# Altium schematic symbol library war2415zp3wr.SchLib: 1 symbol
Pins are listed as number, name and electrical type; pins without a type are passive.

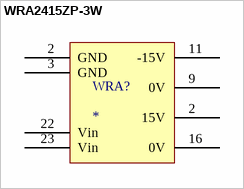
[diagram p0: symbol WRA2415ZP-3W]

## WRA2415ZP-3W
designator WRA?
pins: 2 15V, 2 GND, 3 GND, 9 0V, 11 -15V, 16 0V, 22 Vin, 23 Vin